# Altium schematic symbol library Schlib1.SchLib: 37 symbols
Pins are listed as number, name and electrical type; pins without a type are passive.

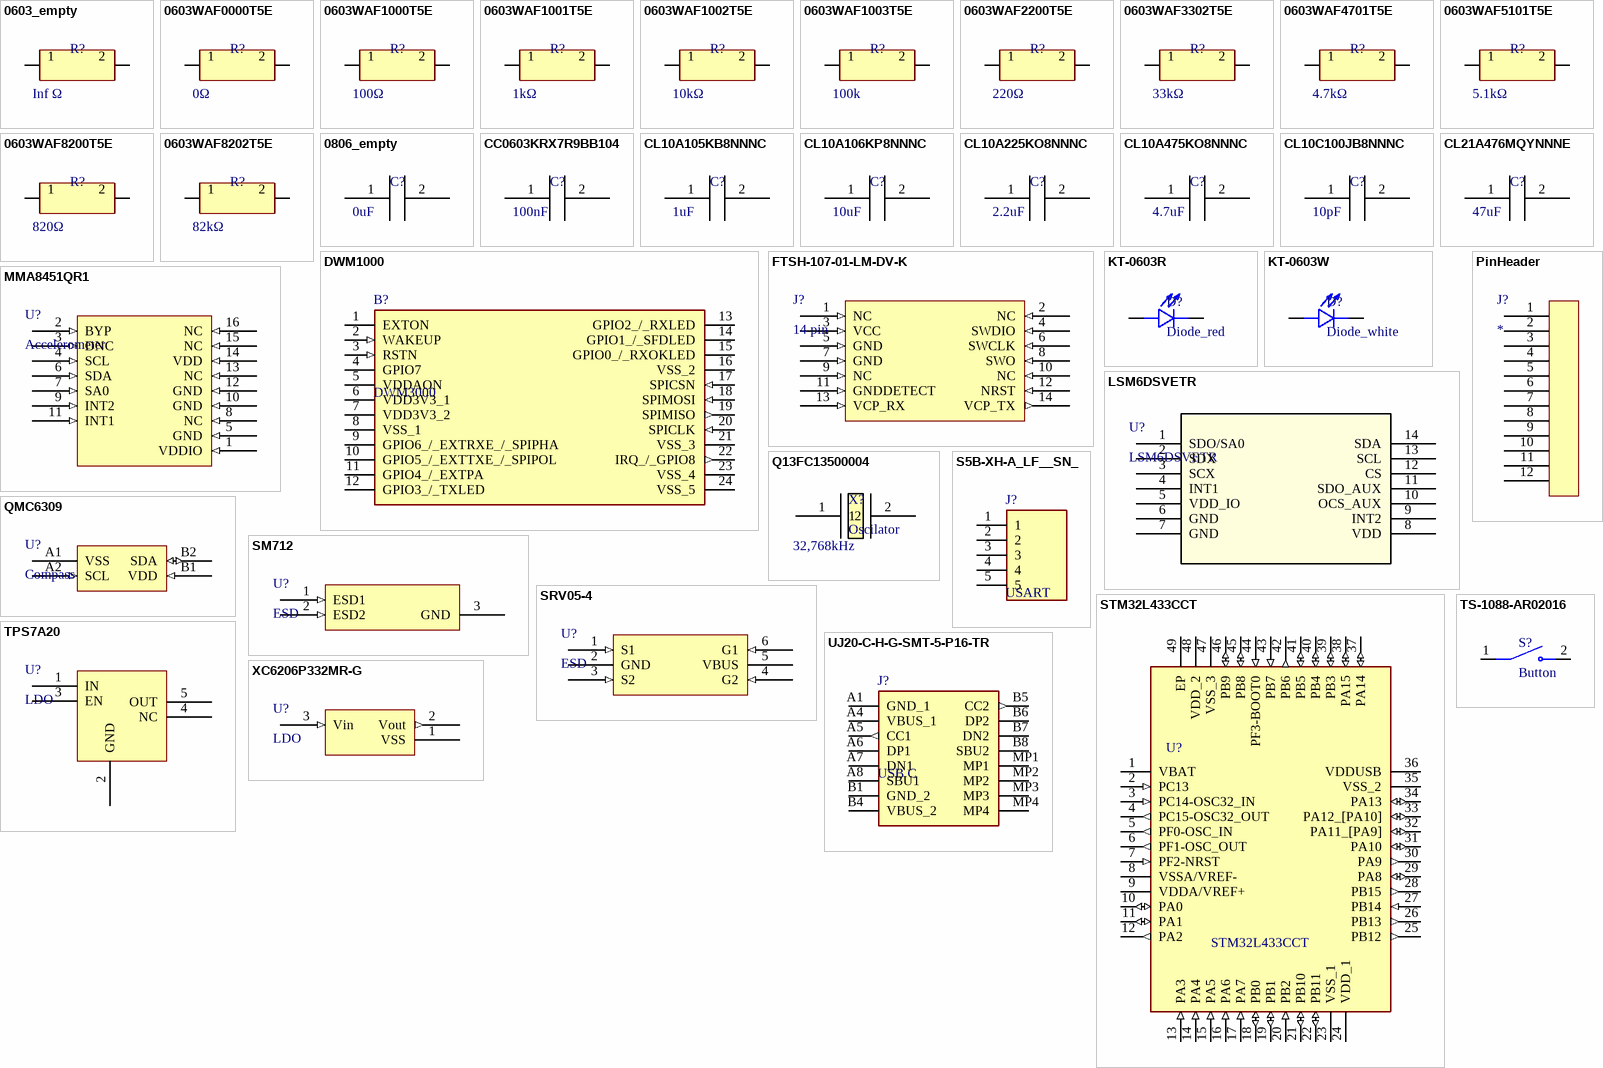
[diagram p0: symbols 0603_empty to XC6206P332MR-G]

## 0603_empty
designator R?, comment value Inf Ω  (hidden comment: Empty 0603)
empty space for 0603 device; LCSC Part #: None
footprint 0603_empty (2-Leads, Body 1,60x0,80mm, IPC Medium Density)
pins: 1, 2 3

## 0603WAF0000T5E
designator R?, comment value 0Ω  (hidden comment: 0R)
0Ω -55℃~+155℃ 100mW 75V Thick Film Resistor ±1% ±100ppm/℃ 0603 Chip Resistor - Surface Mount ROHS; LCSC Part #: C21189
footprint 0603_res (2-Leads, Body 1,60x0,80mm, IPC Medium Density)
pins: 1, 2 3

## 0603WAF1000T5E
designator R?, comment value 100Ω  (hidden comment: 100)
100Ω -55℃~+155℃ 100mW 75V Thick Film Resistor ±1% ±100ppm/℃ 0603 Chip Resistor - Surface Mount ROHS; LCSC Part #: C22775
footprint 0603_res (2-Leads, Body 1,60x0,80mm, IPC Medium Density)
pins: 1, 2 3

## 0603WAF1001T5E
designator R?, comment value 1kΩ  (hidden comment: 1k)
1kΩ -55℃~+155℃ 100mW 75V Thick Film Resistor ±1% ±100ppm/℃ 0603 Chip Resistor - Surface Mount ROHS; LCSC Part #: C21190
footprint 0603_res (2-Leads, Body 1,60x0,80mm, IPC Medium Density)
pins: 1, 2 3

## 0603WAF1002T5E
designator R?, comment value 10kΩ  (hidden comment: 10k)
10kΩ -55℃~+155℃ 100mW 75V Thick Film Resistor ±1% ±100ppm/℃ 0603 Chip Resistor - Surface Mount ROHS; LCSC Part #: C25804
footprint 0603_res (2-Leads, Body 1,60x0,80mm, IPC Medium Density)
pins: 1, 2 3

## 0603WAF1003T5E
designator R?, comment 100k
100kΩ -55℃~+155℃ 100kΩ 100mW 75V Thick Film Resistor ±1% ±100ppm/℃ 0603 Chip Resistor - Surface Mount ROHS; LCSC Part #: C25803; Value: 100k
footprint 0603_res (2-Leads, Body 1,60x0,80mm, IPC Medium Density)
pins: 1, 2 3

## 0603WAF2200T5E
designator R?, comment value 220Ω  (hidden comment: 220)
220Ω -55℃~+155℃ 100mW 75V Thick Film Resistor ±1% ±100ppm/℃ 0603 Chip Resistor - Surface Mount ROHS; LCSC Part #: C22962
footprint 0603_res (2-Leads, Body 1,60x0,80mm, IPC Medium Density)
pins: 1, 2 3

## 0603WAF3302T5E
designator R?, comment value 33kΩ  (hidden comment: 33k)
33kΩ -55℃~+155℃ 100mW 75V Thick Film Resistor ±1% ±100ppm/℃ 0603 Chip Resistor - Surface Mount ROHS; LCSC Part #: C4216
footprint 0603_res (2-Leads, Body 1,60x0,80mm, IPC Medium Density)
pins: 1, 2 3

## 0603WAF4701T5E
designator R?, comment value 4.7kΩ  (hidden comment: 4.7k)
4.7kΩ -55℃~+155℃ 100mW 75V Thick Film Resistor ±1% ±100ppm/℃ 0603 Chip Resistor - Surface Mount ROHS; LCSC Part #: C23162
footprint 0603_res (2-Leads, Body 1,60x0,80mm, IPC Medium Density)
pins: 1, 2 3

## 0603WAF5101T5E
designator R?, comment value 5.1kΩ  (hidden comment: 5.1k)
5.1kΩ -55℃~+155℃ 100mW 75V Thick Film Resistor ±1% ±100ppm/℃ 0603 Chip Resistor - Surface Mount ROHS; LCSC Part #: C23186
footprint 0603_res (2-Leads, Body 1,60x0,80mm, IPC Medium Density)
pins: 1, 2 3

## 0603WAF8200T5E
designator R?, comment value 820Ω  (hidden comment: 820)
820Ω -55℃~+155℃ 100mW 75V Thick Film Resistor ±1% ±100ppm/℃ 0603 Chip Resistor - Surface Mount ROHS; LCSC Part #: C23253
footprint 0603_res (2-Leads, Body 1,60x0,80mm, IPC Medium Density)
pins: 1, 2 3

## 0603WAF8202T5E
designator R?, comment value 82kΩ  (hidden comment: 82k)
82kΩ -55℃~+155℃ 100mW 75V Thick Film Resistor ±1% ±100ppm/℃ 0603 Chip Resistor - Surface Mount ROHS; LCSC Part #: C23254
footprint 0603_res (2-Leads, Body 1,60x0,80mm, IPC Medium Density)
pins: 1, 2 3

## 0806_empty
designator C?, comment value 0uF  (hidden comment: Empty 0805)
empty space for 0806 device; LCSC Part #: None
footprint 0803 (Chip Capacitor, 2-Leads, Body 2,00x1,25mm, IPC Medium Density)
pins: 1, 2 3

## CC0603KRX7R9BB104
designator C?, comment 100nF
100nF 50V X7R ±10% 0603 Multilayer Ceramic Capacitors MLCC - SMD/SMT ROHS; LCSC Part #: C14663; Value: 100nF
footprint 0603_cap (2-Leads, Body 1,60x0,80mm, IPC Medium Density)
pins: 1, 2 3

## CL10A105KB8NNNC
designator C?, comment 1uF
1uF 50V X5R ±10% 0603 Multilayer Ceramic Capacitors MLCC - SMD/SMT ROHS; LCSC Part #: C15849; Value: 1uF
footprint 0603_cap (2-Leads, Body 1,60x0,80mm, IPC Medium Density)
pins: 1, 2 3

## CL10A106KP8NNNC
designator C?, comment 10uF
10uF 50V X7R ±10% 0603 Multilayer Ceramic Capacitors MLCC - SMD/SMT ROHS; LCSC Part #: C19702; Value: 10uF
footprint 0603_cap (2-Leads, Body 1,60x0,80mm, IPC Medium Density)
pins: 1, 2 3

## CL10A225KO8NNNC
designator C?, comment 2.2uF
2.2uF 16V X5R ±10% 0603 Multilayer Ceramic Capacitors MLCC - SMD/SMT ROHS; LCSC Part #: C23630; Value: 2.2uF
footprint 0603_cap (2-Leads, Body 1,60x0,80mm, IPC Medium Density)
pins: 1, 2 3

## CL10A475KO8NNNC
designator C?, comment 4.7uF
4.7uF 50V X7R ±10% 0603 Multilayer Ceramic Capacitors MLCC - SMD/SMT ROHS; LCSC Part #: C19666; Value: 4.7uF
footprint 0603_cap (2-Leads, Body 1,60x0,80mm, IPC Medium Density)
pins: 1, 2 3

## CL10C100JB8NNNC
designator C?, comment 10pF
10pF 50V C0G ±5% 0603 Multilayer Ceramic Capacitors MLCC - SMD/SMT ROHS; LCSC Part #: C1634; Value: 10pF
footprint 0603_cap (2-Leads, Body 1,60x0,80mm, IPC Medium Density)
pins: 1, 2 3

## CL21A476MQYNNNE
designator C?, comment 47uF
47uF 50V X7R ±10% 0603 Multilayer Ceramic Capacitors MLCC - SMD/SMT ROHS; LCSC Part #: C16780; Value: 47uF
footprint 0803 (Chip Capacitor, 2-Leads, Body 2,00x1,25mm, IPC Medium Density)
pins: 1, 2 3

## DWM1000
designator B?, comment DWM3000
3.5 - 6.5 GHz Ultra-Wideband (UWB) Transceiver Module; Manufacturer_Name: Qorvo; Manufacturer_Part_Number: DWM1000; Geometry.Height: 3.15mm; Mouser Part Number: 772-DWM1000; Mouser Price/Stock: https://www.mouser.co.uk/ProductDetail/Qorvo/DWM1000?qs=TiOZkKH1s2R6b5D6df63Pg%3D%3D; Datasheet Link: https://www.qorvo.com/products/d/da007948
footprint DWM1000
pins: 1 EXTON, 2 WAKEUP (in), 3 RSTN (in), 4 GPIO7, 5 VDDAON, 6 VDD3V3_1, 7 VDD3V3_2, 8 VSS_1, 9 GPIO6_/_EXTRXE_/_SPIPHA, 10 GPIO5_/_EXTTXE_/_SPIPOL, 11 GPIO4_/_EXTPA, 12 GPIO3_/_TXLED, 13 GPIO2_/_RXLED, 14 GPIO1_/_SFDLED, 15 GPIO0_/_RXOKLED, 16 VSS_2, 17 SPICSN (in), 18 SPIMOSI (in), 19 SPIMISO (out), 20 SPICLK (in), 21 VSS_3, 22 IRQ_/_GPIO8 (out), 23 VSS_4, 24 VSS_5

## FTSH-107-01-LM-DV-K
designator J?, comment 14 pin
For SWD debug
footprint FTSH14
pins: 1 NC (in), 2 NC (in), 3 VCC (in), 4 SWDIO (in), 5 GND (in), 6 SWCLK (in), 7 GND (in), 8 SWO (in), 9 NC (in), 10 NC (in), 11 GNDDETECT (in), 12 NRST (in), 13 VCP_RX (in), 14 VCP_TX (out)

## KT-0603R
designator D?, comment Diode_red
-40℃~+85℃ 120° 2.4V 20mA 300mcd 40mW 615nm~630nm 645nm Red Water Clear 0603 LED Indication - Discrete ROHS; LCSC Part #: C2286
footprint 0603_LED (Chip Diode, 2-Leads, Body 1,60x0,80mm, IPC Medium Density)
pins: A, C

## KT-0603W
designator D?, comment Diode_white
100mW 120° 2.6V~3.1V 360mcd 5mA Discrete Diode White Yellow Lens op View Mount 0603 LED Indication - Discrete ROHS; LCSC Part #: C2290
footprint 0603_LED (Chip Diode, 2-Leads, Body 1,60x0,80mm, IPC Medium Density)
pins: A, C

## LSM6DSVETR
designator U?
6-axis IMU with embedded sensor fusion, I3C, OIS/EIS for smart applications; LCSC Part #: C41785564
footprint LGA14-L_2p59x3P1x0P5_STM
pins: 1 SDO/SA0, 2 SDX, 3 SCX, 4 INT1, 5 VDD_IO (power), 6 GND (power), 7 GND (power), 8 VDD (power), 9 INT2, 10 OCS_AUX, 11 SDO_AUX, 12 CS, 13 SCL, 14 SDA

## MMA8451QR1
designator U?, comment Accelerometer
-40℃~+85℃ 1.8uA 1.95V~3.6V 14bit Accelerometer I2C X,Y,Z ±8g QFN-16(3x3) Accelerometers ROHS; LCSC Part #: C118083
footprint QFN50P300X300X100-16N
pins: 1 VDDIO (in), 2 BYP (in), 3 DNC (in), 4 SCL (in), 5 GND (in), 6 SDA (in), 7 SA0 (in), 8 NC (in), 9 INT2 (in), 10 GND (in), 11 INT1 (in), 12 GND (in), 13 NC (in), 14 VDD (in), 15 NC (in), 16 NC (in)

## PinHeader
designator J?
footprint PINs
pins: 1, 2, 3, 4, 5, 6, 7, 8, 9, 10, 11, 12

## Q13FC13500004
designator X?, comment Oscilator  Parameter: 32,768kHz
-40℃~+85℃ 12.5pF 32.768kHz 70kΩ Crystal Oscillator ±20ppm SMD3215-2P Crystals ROHS; ComponentLink1Description: New link; ComponentLink1URL: https://jlcpcb.com/partdetail/SeikoEpson-Q13FC13500004/C32346; LCSC Part #: C32346
footprint SMD3215-2P
pins: 1, 2

## QMC6309
designator U?, comment Compass
-40℃~+85℃ 16bit 2.5V~3.6V 6uA I2C ±3.2mT ±3.2mT WLCSP-4(0.8x0.8) 3D Magnetic Sensors ROHS; LCSC Part #: C5439871
footprint BGA4C40P2X2_79X79X58 (BGA, 4-Leads, Body 0,79x0,79mmx0,58mm, Pitch 0,40mm)
pins: A1 VSS (power), A2 SCL (in), B1 VDD (in), B2 SDA (io)

## S5B-XH-A_LF__SN_
designator J?, comment USART
comunication to master
footprint JST_B5B-XH-A
pins: 1, 2, 3, 4, 5

## SM712
designator U?, comment ESD
-55℃~+125℃ 12A 13.5V 16V 1uA 2 300W 75pF 7V Bidirectional ESD IEC 61000-4-2 SOT-23 ESD and Surge Protection (TVS/ESD) ROHS; LCSC Part #: C7420375
footprint SOT23-3L_ESD (SOT23, 3-Leads, Body 2,90x2,40mm, Pitch 0,95mm, IPC Medium Density)
pins: 1 ESD1 (in), 2 ESD2 (in), 3 GND (power)

## SRV05-4
designator U?, comment ESD
-55℃~+155℃ 12.5V 1pF 5 5A 5V 5uA 6V 75W ESD IEC 61000-4-2 Unidirectional SOT-23-6L ESD and Surge Protection (TVS/ESD) ROHS; LCSC Part #: C7420376
footprint sot-23-6L_ESD (SOT23, 6-Leads, Body 2,90x2,80mm, Pitch 0,95mm, IPC Medium Density)
pins: 1 S1 (in), 2 GND (power), 3 S2 (in), 4 G2 (in), 5 VBUS (power), 6 G1 (in)

## STM32L433CCT
designator U?
Manufacturer_Name: STMicroelectronics; Manufacturer_Part_Number: STM32L433CCT
footprint LQFP50
pins: 1 VBAT, 2 PC13 (in), 3 PC14-OSC32_IN (in), 4 PC15-OSC32_OUT (out), 5 PF0-OSC_IN (out), 6 PF1-OSC_OUT (out), 7 PF2-NRST (in), 8 VSSA/VREF-, 9 VDDA/VREF+, 10 PA0 (io), 11 PA1 (io), 12 PA2 (out), 13 PA3 (in), 14 PA4 (in), 15 PA5 (in), 16 PA6 (in), 17 PA7 (in), 18 PB0 (io), 19 PB1 (io), 20 PB2 (in), 21 PB10 (io), 22 PB11 (io), 23 VSS_1, 24 VDD_1, 25 PB12 (out), 26 PB13 (out), 27 PB14 (in), 28 PB15 (out), 29 PA8 (io), 30 PA9 (out), 31 PA10 (io), 32 PA11_[PA9] (io), 33 PA12_[PA10] (io), 34 PA13 (io), 35 VSS_2, 36 VDDUSB, 37 PA14 (io), 38 PA15 (io), 39 PB3 (io), 40 PB4 (io), 41 PB5 (io), 42 PB6 (out), 43 PB7 (in), 44 PF3-BOOT0 (in), 45 PB8 (io), 46 PB9 (io), 47 VSS_3, 48 VDD_2, 49 EP

## TPS7A20
designator U?, comment LDO
LCSC Part #: C2862740
footprint SOT95P280X145-5N (SOT23, 5-Leads, Body 2,90x2,80mm, Pitch 0,95mm, IPC Medium Density)
pins: 1 IN (power), 2 GND (power), 3 EN (power), 4 NC (power), 5 OUT (power)

## TS-1088-AR02016
designator S?, comment Button
50mA 4mm 100MÎ© 100,000 Times 12V 160gf 3mm 2mm Round Button Vertical welding SPST SMD Tactile Switches ROHS; LCSC Part #: C720477
footprint SW_TS-1088-AR02016
pins: 1, 2

## UJ20-C-H-G-SMT-5-P16-TR
designator J?, comment USB C
Type C, USB 2.0, 480 Mbps, 48 Vac, 5 A, Horizontal, Gold Plated 3u, Surface Mount with post, 16 pin, USB Receptacle; Mouser Part Number: 179-UJ20CHGSMT5P16TR; LCSC Part #: C22383469
footprint UJ20CHGSMT5P16TR
pins: A1 GND_1, A4 VBUS_1, A5 CC1 (out), A6 DP1, A7 DN1, A8 SBU1, B1 GND_2, B4 VBUS_2, B5 CC2 (out), B6 DP2, B7 DN2, B8 SBU2, MP1, MP2, MP3, MP4

## XC6206P332MR-G
designator U?, comment LDO
-40℃~+85℃@(Ta) 1 1uA 200mA 3.3V 6V Fixed Over Current Protection Positive SOT-23-3L Voltage Regulators - Linear, Low Drop Out (LDO) Regulators ROHS; LCSC Part #: C5446
footprint SOT95P280X120-3N (SOT23, 3-Leads, Body 2,90x2,80mm, Pitch 0,95mm, IPC Medium Density)
pins: 1 VSS (power), 2 Vout (out), 3 Vin (in)